# Altium schematic symbol library Symbol.SchLib: 68 symbols (part 1 of 2)
Pins are listed as number, name and electrical type; pins without a type are passive.

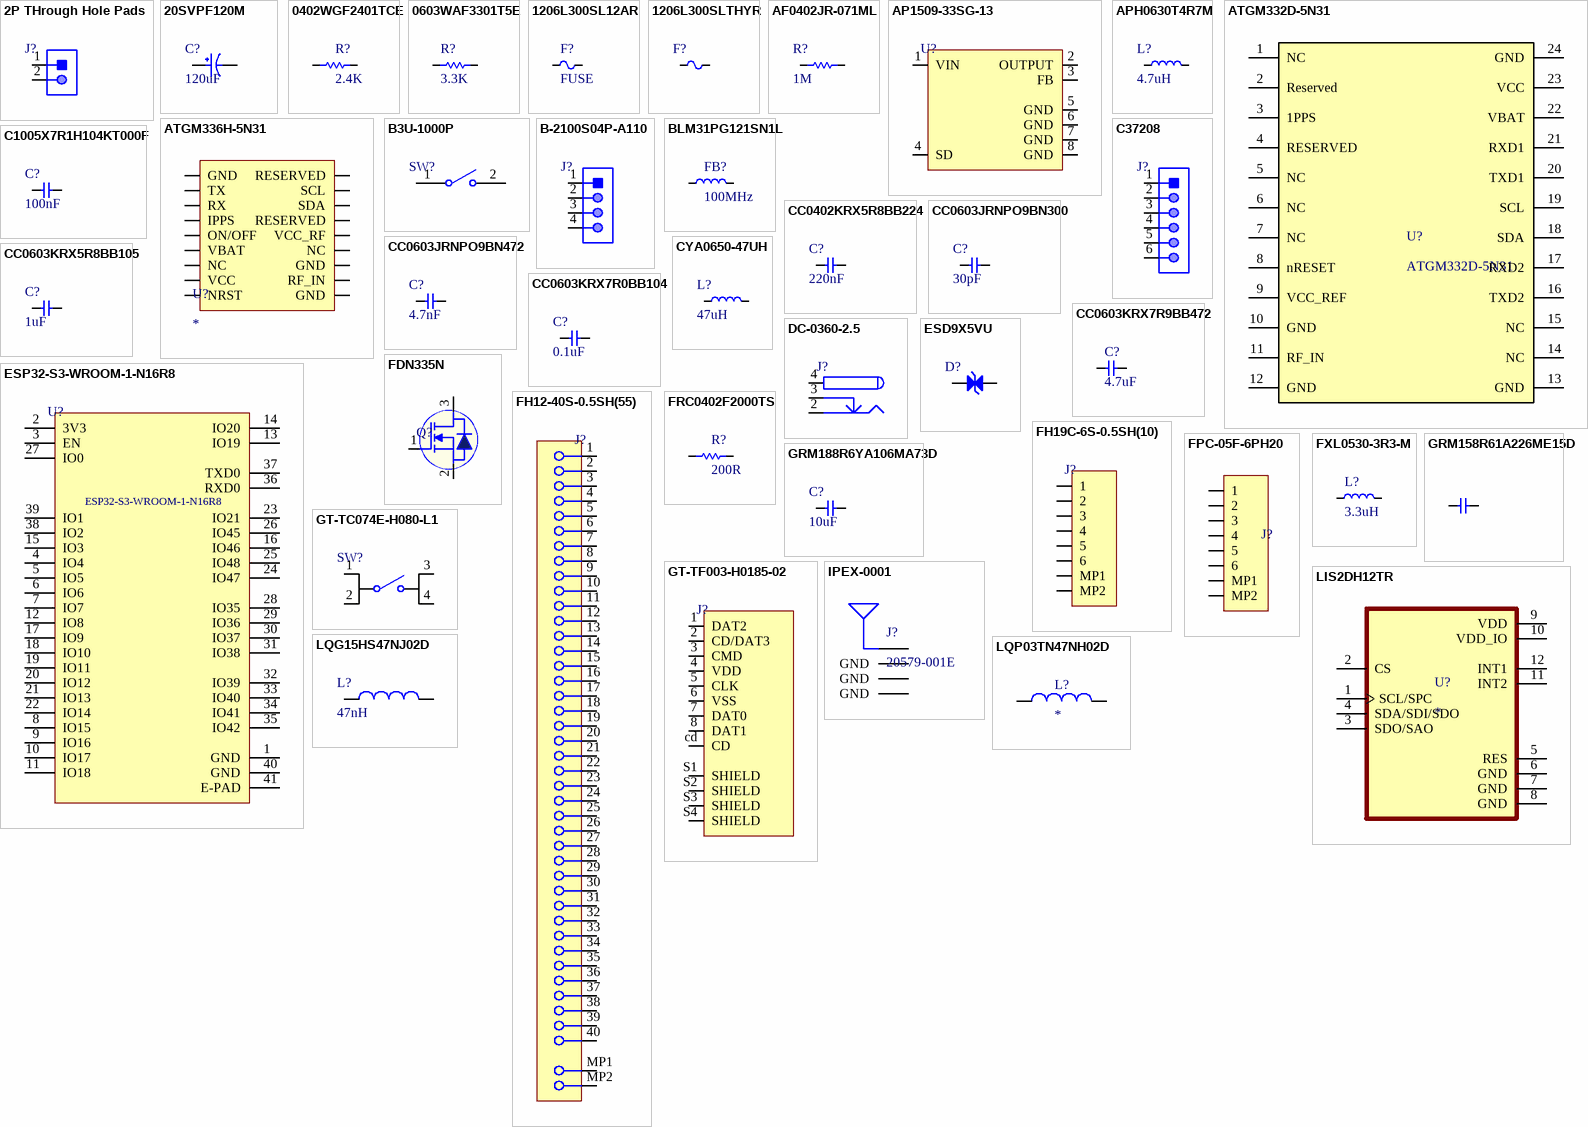
[diagram p0: symbols 2P THrough Hole Pads to LQP03TN47NH02D]

## 2P THrough Hole Pads
designator J?
Wire Connecting Pad; Manufacturer Part Number: 2P THrough Hole Pads; Item Type: THrough Hole Pads
footprint 2P THrough Hole Pads
pins: 1, 2

## 20SVPF120M
designator C?, comment 120uF
CAP ALUM POLY 120UF 20% 20V SMD; Manufacturer: Panasonic; Manufacturer Part Number: 20SVPF120M; Material: Polymer; ESR (Equivalent Series Resistance): 25mR; Ripple Current: 3.2A; Leakage Current: 480uA; Polarity: Polar; Life (Hours): 5000Hour; Dissipation Factor: 12%; Item Type: Capacitor; Supplier 1: Digi-Key; RoHS: Yes; Category: Aluminum Electrolytic Capacitors; Stock 1: 50150; Pricing 1: 1=1.45000, 10=1.14300, 50=0.99020, 100=0.85700, 500=0.64748 (USD); Mount: Surface Mount; Case/Package: Radial; Number of Pins: 6; Min Operating Temperature: -55°C; Max Operating Temperature: 105°C; Capacitance: 120uF; Tolerance: 20%; Voltage Rating: 20V; Packaging: Tape and Reel; Voltage Rating (DC): 20V; Package Quantity: 1000; Ripple Current (AC): 3.2A; Termination: SMD/SMT; Voltage: 20V; Series: OS-CON™, SVPF; Construction: Cylindrical; Diameter: 6.3mm; Length: 5.9mm; Height: 5.9mm; Height - Seated (Max): 0.236inch; Radiation Hardening: No; Reach SVHC Compliant: Yes; Lead Free: Lead Free; RoHS Compliant: Yes; ComponentLink1URL: https://datasheet.ciiva.com/24432/svpf-series-datasheet-24432811.pdf?src-supplier=Onlinecomponents.com; ComponentLink1Description: https://datasheet.ciiva.com/24432/svpf-series-datasheet-24432811.pdf?src-supplier=Onlinecomponents.com; ComponentLink2URL: https://datasheet.ciiva.com/25746/1734360-25746680.pdf?src-supplier=Farnell; ComponentLink2Description: https://datasheet.ciiva.com/25746/1734360-25746680.pdf?src-supplier=Farnell; ComponentLink3URL: https://datasheet.ciiva.com/22746/1734360-22746206.pdf?src-supplier=Element14; ComponentLink3Description: https://datasheet.ciiva.com/22746/1734360-22746206.pdf?src-supplier=Element14; ComponentLink4URL: https://datasheet.ciiva.com/46650/70324301-46650876.pdf?src-supplier=Allied+Electronics; ComponentLink4Description: https://datasheet.ciiva.com/46650/70324301-46650876.pdf?src-supplier=Allied+Electronics; Supplier Part Number 1: P16498CT-ND; LCSC Part Number: C186713
footprint 20SVPF120M
pins: 1, 2

## 0402WGF2401TCE
designator R?, comment 2.4K
62.5mW Thick Film Resistors 50V ±100ppm/℃ ±1% 2.4kΩ 0402 Chip Resistor - Surface Mount ROHS; Manufacturer: UNI ROYAL; Manufacturer Part Number: 0402WGF2401TCE; LCSC Part Number: C25882; Item Type: Resistor; Package: 0402; ComponentLink1Description: LCSC Link; ComponentLink1URL: https://www.lcsc.com/product-detail/Chip-Resistor-Surface-Mount_UNI-ROYAL-Uniroyal-Elec-0402WGF2401TCE_C25882.html
footprint Res-0402
pins: 1, 2

## 0603WAF3301T5E
designator R?, comment 3.3K
100mW Thick Film Resistors 75V ±100ppm/℃ ±1% 3.3kΩ 0603 Chip Resistor - Surface Mount ROHS; Manufacturer: UNI-ROYAL(Uniroyal Elec); Manufacturer Part Number: 0603WAF3301T5E; LCSC Part Number: C22978; Item Type: Resistor; Package: 0603; ComponentLink1Description: LSCS Link; ComponentLink1URL: https://www.lcsc.com/product-detail/Chip-Resistor-Surface-Mount_UNI-ROYAL-Uniroyal-Elec-0603WAF3301T5E_C22978.html
footprint Res-0603
pins: 1, 2

## 1206L300SL12AR
designator F?, comment FUSE
12V 3A 50A 6A 1206 Resettable Fuses ROHS; Manufacturer: LUTE; Manufacturer Part Number: Manufacturer; ComponentLink1Description: LCSC Link; ComponentLink1URL: https://www.lcsc.com/product-detail/Resettable-Fuses_LUTE-1206L300SL12AR_C18198361.html; LCSC Part Number: C18198361; Item Type: FUSE; Package: 1206
footprint Fuse 1206 (3216 Metric) (0.126" L x 0.062" W x 0.026" H (3.20mm x 1.58mm x 0.65mm))
pins: 1, 2

## 1206L300SLTHYR
designator F?
PTC RESET FUSE 6V 3A 1206; Manufacturer: Littelfuse; Manufacturer Part Number: 1206L300SLTHYR; Max Current Rating: 50A; Resistance: 20mR; Power Dissipation: 800mW; Trip Current: 6A; Time to Trip: 4s; Approvals: UL,TUV; Supplier 1: Arrow Electronics; RoHS: Yes; Category: PTC Resettable Fuses; Stock 1: 4000; Pricing 1: 4000=0.60290 (USD); Case/Package: 1206; Case Code (Metric): 3216; Case Code (Imperial): 1206; Min Operating Temperature: -40°C; Max Operating Temperature: 85°C; Package Quantity: 4000; Packaging: Tape and Reel; Termination: SMD/SMT; Max Voltage Rating (DC): 6V; Hold Current: 3A; Voltage Rating (DC): 6V; Operating Supply Voltage: 6V; Series: POLY-FUSE®, LoRho™; Lead Free: Lead Free; RoHS Compliant: Yes; ComponentLink1URL: https://datasheet.ciiva.com/7438/littelfuse-lorho-ptc-7438567.pdf?src-supplier=Digi-Key; ComponentLink1Description: https://datasheet.ciiva.com/7438/littelfuse-lorho-ptc-7438567.pdf?src-supplier=Digi-Key; ComponentLink2URL: https://datasheet.ciiva.com/7438/littelfuse-lorho-ptc-7438569.pdf?src-supplier=Digi-Key; ComponentLink2Description: https://datasheet.ciiva.com/7438/littelfuse-lorho-ptc-7438569.pdf?src-supplier=Digi-Key; ComponentLink3URL: https://datasheet.ciiva.com/7438/littelfuse-lorho-ptc-7438565.pdf?src-supplier=Digi-Key; ComponentLink3Description: https://datasheet.ciiva.com/7438/littelfuse-lorho-ptc-7438565.pdf?src-supplier=Digi-Key; Supplier Part Number 1: 1206L300SLTHYR; LCSC Part Number: C207041; Item Type: Fuse
footprint Fuse 1206 (3216 Metric) (0.126" L x 0.062" W x 0.026" H (3.20mm x 1.58mm x 0.65mm))
pins: 1, 2

## AF0402JR-071ML
designator R?, comment 1M
RES SMD 1M OHM 5% 1/16W 0402; Manufacturer: Yageo; Manufacturer Part Number: AF0402JR-071ML; Resistance: 1MR; Max Power Dissipation: 63mW; Temperature Coefficient: 100ppm/°C; Item Type: Resistor; Supplier 1: Digi-Key; Stock 1: 0; Pricing 1: 10000=0.00408 (USD); Case/Package: 0402; Min Operating Temperature: -55°C; Max Operating Temperature: 155°C; Packaging: Tape and Reel; Resistor Type: Thick Film; Number of Terminations: 2; Tolerance: 5%; Features: Moisture Resistant,Anti-Sulfur; Length: 0.039inch; Width: 0.02inch; Height: 0.015inch; RoHS Compliant: Yes; ComponentLink1URL: https://www.yageo.com/upload/media/product/productsearch/datasheet/rchip/PYu-AF_51_RoHS_L_6.pdf?src-supplier=Digi-Key; ComponentLink1Description: https://www.yageo.com/upload/media/product/productsearch/datasheet/rchip/PYu-AF_51_RoHS_L_6.pdf?src-supplier=Digi-Key; Supplier Part Number 1: AF0402JR-071ML-ND; LCSC Part Number: C144054
footprint Res-0402
pins: 1, 2

## AP1509-33SG-13
designator U?
IC REG BUCK 3.3V 2A 8SOP; Manufacturer: Diodes; Manufacturer Part Number: AP1509-33SG-13; Supplier: Digi-Key; Supplier Part Number: AP1509-33SGDICT-ND; RoHS: Yes; Category: Voltage Regulators - Switching; Stock: 7160; Pricing: 1=1.6, 10=1.43, 25=1.3576, 100=1.115, 250=1.04232, 500=0.92112, 1000=0.7272 (USD); ComponentLink1URL: https://datasheet.ciiva.com/2024/ap1509-2024112.pdf?src-supplier=Digi-Key; ComponentLink1Description: https://datasheet.ciiva.com/2024/ap1509-2024112.pdf?src-supplier=Digi-Key; ComponentLink2URL: https://datasheet.ciiva.com/22696/608784-22696879.pdf?src-supplier=Element14; ComponentLink2Description: https://datasheet.ciiva.com/22696/608784-22696879.pdf?src-supplier=Element14; ComponentLink3URL: https://datasheet.ciiva.com/3220/ap1509-3220415.pdf?src-supplier=Avnet; ComponentLink3Description: https://datasheet.ciiva.com/3220/ap1509-3220415.pdf?src-supplier=Avnet; ComponentLink4URL: https://datasheet.ciiva.com/3222/ap1509-3222047.pdf?src-supplier=Avnet; ComponentLink4Description: https://datasheet.ciiva.com/3222/ap1509-3222047.pdf?src-supplier=Avnet; ComponentLink5URL: https://datasheet.ciiva.com/1161/608784-1161659.pdf?src-supplier=Element14; ComponentLink5Description: https://datasheet.ciiva.com/1161/608784-1161659.pdf?src-supplier=Element14; LCSC Part Number: C151823; Item Type: IC
footprint SOP-8L
pins: 1 VIN, 2 OUTPUT, 3 FB, 4 SD, 5 GND, 6 GND, 7 GND, 8 GND

## APH0630T4R7M
designator L?, comment 4.7uH
5.15A 4.7uH Molding Choke ±20% 7.47A SMD,7x6.6mm Power Inductors ROHS; Manufacturer: APV; Manufacturer Part Number: APH0630T4R7M; LCSC Part Number: C5349705; Item Type: Inductor; Package: SMD,7x6.6mm; ComponentLink1Description: LCSC; ComponentLink1URL: https://www.lcsc.com/product-detail/Power-Inductors_APV-APH0630T4R7M_C5349705.html
footprint APH0630T4R7M
pins: 1, 2

## ATGM332D-5N31
designator U?
Satellite Positioning Modules ROHS, SMD,12.2x16mm; ComponentLink1Description: LCSC; ComponentLink1URL: https://www.lcsc.com/product-detail/Satellite-Positioning-Modules_ZHONGKEWEI-ATGM332D-5N31_C128659.html
footprint ATGM332D-5N31
pins: 1 NC, 2 Reserved, 3 1PPS, 4 RESERVED, 5 NC, 6 NC, 7 NC, 8 nRESET, 9 VCC_REF, 10 GND, 11 RF_IN, 12 GND, 13 GND, 14 NC, 15 NC, 16 TXD2, 17 RXD2, 18 SDA, 19 SCL, 20 TXD1, 21 RXD1, 22 VBAT, 23 VCC, 24 GND

## ATGM336H-5N31
designator U?
SMD,9.7x10.1mm Satellite Positioning Modules ROHS
footprint ATGM336H
pins: 1 GND, 2 TX, 3 RX, 4 IPPS, 5 ON/OFF, 6 VBAT, 7 NC, 8 VCC, 9 NRST, 10 GND, 11 RF_IN, 12 GND, 13 NC, 14 VCC_RF, 15 RESERVED, 16 SDA, 17 SCL, 18 RESERVED

## B3U-1000P
designator SW?
SWITCH TACTILE SPST-NO 0.05A 12V; Manufacturer: Omron; Manufacturer Part Number: B3U-1000P; Mechanical Life: 200000Cycles; Operating Force: 1.5N; Throw Configuration: SPST; Current Rating: 50mA; Contact Resistance: 100mR; Illumination Type: Non-Illuminated,Illuminated; Switch Travel: 0.15mm; Switch Function: Off-Mom; Actuator Type: Standard; Actuator Length: 0.4mm; Ratings: Dust Proof,IP40; ComponentLink1URL: http://www.farnell.com/datasheets/60838.pdf?src-supplier=Farnell; ComponentLink1Description: http://www.farnell.com/datasheets/60838.pdf?src-supplier=Farnell; ComponentLink2URL: http://www.farnell.com/datasheets/60838.pdf?src-supplier=Element14; ComponentLink2Description: http://www.farnell.com/datasheets/60838.pdf?src-supplier=Element14; ComponentLink3URL: https://omronfs.omron.com/en_US/ecb/products/pdf/en-b3u.pdf?src-supplier=Digi-Key; ComponentLink3Description: https://omronfs.omron.com/en_US/ecb/products/pdf/en-b3u.pdf?src-supplier=Digi-Key; ComponentLink4URL: http://www.omron.com/ecb/products/pdf/en-b3u.pdf?src-supplier=Digi-Key; ComponentLink4Description: http://www.omron.com/ecb/products/pdf/en-b3u.pdf?src-supplier=Digi-Key; ComponentLink5URL: https://www.distrelec.biz/Web/Downloads/he/et/B3U_eng_datasheet.pdf?mime=application%2Fpdf&src-supplier=Distrelec; ComponentLink5Description: https://www.distrelec.biz/Web/Downloads/he/et/B3U_eng_datasheet.pdf?mime=application%2Fpdf&src-supplier=Distrelec; ComponentLink6URL: http://www.onlinecomponents.com/productFiles/mf-OM/en-b3u.pdf?src-supplier=Onlinecomponents.com; ComponentLink6Description: http://www.onlinecomponents.com/productFiles/mf-OM/en-b3u.pdf?src-supplier=Onlinecomponents.com; Supplier 1: Digi-Key; Stock 1: 116454; Pricing 1: 1=1, 10=0.961, 25=0.9064, 50=0.7976, 100=0.7251, 250=0.68888, 500=0.67074, 1000=0.52571 (USD); Mount: Surface Mount; Weight: 0.000776oz; Contact Material: Silver; Min Operating Temperature: -25°C; Max Operating Temperature: 70°C; Packaging: Tape and Reel; Voltage Rating (DC): 12V; Package Quantity: 1; Max Current Rating: 50mA; Termination: SMD/SMT; Orientation: Straight; Max Voltage Rating (DC): 12V; Electrical Life: 200000Cycles; Insulation Resistance: 100MR; Contact Current Rating: 50mA; Length: 4mm; Height: 1.2mm; Depth: 2.5mm; Width: 3mm; REACH SVHC: Unknown; Lead Free: Lead Free; ComponentLink7URL: https://www.verical.com/server-webapp/html/getDatasheet?partID=552554&src-supplier=Verical; ComponentLink7Description: https://www.verical.com/server-webapp/html/getDatasheet?partID=552554&src-supplier=Verical; ComponentLink8URL: http://www.farnell.com/datasheets/1685550.pdf?src-supplier=Element14; ComponentLink8Description: http://www.farnell.com/datasheets/1685550.pdf?src-supplier=Element14; ComponentLink9URL: http://www.farnell.com/datasheets/2610940.pdf?src-supplier=Farnell; ComponentLink9Description: http://www.farnell.com/datasheets/2610940.pdf?src-supplier=Farnell; ComponentLink10URL: https://www.alliedelec.com/m/d/4c8a9ef82804fc3c241a13c1e298fd73.pdf?src-supplier=Allied+Electronics; ComponentLink10Description: https://www.alliedelec.com/m/d/4c8a9ef82804fc3c241a13c1e298fd73.pdf?src-supplier=Allied+Electronics; Supplier Part Number 1: SW1020DKR-ND; LCSC Part Number: C231329; Item Type: Switch
footprint B3U-1000P (SWITCH TACTILE SPST-NO 0.05A 12V)
pins: 1, 2

## B-2100S04P-A110
designator J?
Straight 2.54mm Black Brass 1x4P Plugin,P=2.54mm Pin Headers ROHS; Manufacturer: Ckmtw; Manufacturer Part Number: B-2100S04P-A110; Item Type: Header; LCSC Part Number: C124378; ComponentLink1Description: LCSC; ComponentLink1URL: https://www.lcsc.com/product-detail/Pin-Headers_Ckmtw-Shenzhen-Cankemeng-B-2100S04P-A110_C124378.html
footprint HDR1X4
pins: 1, 2, 3, 4

## BLM31PG121SN1L
designator FB?, comment 100MHz
FERRITE BEAD 120 OHM 1206 1LN; Manufacturer: Murata; Manufacturer Part Number: BLM31PG121SN1L; Material: Steel,Ferrite; Tolerance: 25%; Impedance: 120R; Max Current Rating: 3.5A; Number of Lines: 1; DC Resistance (DCR): 20mR; Max DC Current: 3A; Shielding: Unshielded; Supplier 1: Avnet; RoHS: Yes; Category: Ferrite Beads and Chips; Stock 1: 290640; Pricing 1: 3000=0.11563, 6000=0.10938, 12000=0.10313, 18000=0.09688, 24000=0.09063, 30000=0.08438, 300000=0.07813 (USD); Case/Package: 1206; Number of Pins: 2; Core Material: Ferrite; Case Code (Metric): 3216; Case Code (Imperial): 1206; Contact Plating: Tin,Matte; Min Operating Temperature: -55°C; Max Operating Temperature: 125°C; Package Quantity: 3000; Packaging: Tape and Reel; Current Rating: 3.5A; Termination: SMD/SMT; Test Frequency: 100MHz; DC Current: 3A; Frequency: 100MHz; Length: 3.2mm; Width: 1.6mm; Height: 1.1mm; Depth: 1.6mm; Radiation Hardening: No; Military Standard: Not; Lead Free: Lead Free; RoHS Compliant: Yes; ComponentLink1URL: https://datasheet.ciiva.com/19460/1845419-19460234.pdf?src-supplier=Jameco; ComponentLink1Description: https://datasheet.ciiva.com/19460/1845419-19460234.pdf?src-supplier=Jameco; ComponentLink2URL: https://datasheet.ciiva.com/1012/l0132s0193blm31p-1012992.pdf?src-supplier=Digi-Key; ComponentLink2Description: https://datasheet.ciiva.com/1012/l0132s0193blm31p-1012992.pdf?src-supplier=Digi-Key; ComponentLink3URL: https://datasheet.ciiva.com/11799/0900766b811b5866-11799444.pdf?src-supplier=RSComponents; ComponentLink3Description: https://datasheet.ciiva.com/11799/0900766b811b5866-11799444.pdf?src-supplier=RSComponents; ComponentLink4URL: https://datasheet.ciiva.com/3081/l0110s0100blm31p-3081665.pdf?src-supplier=Avnet; ComponentLink4Description: https://datasheet.ciiva.com/3081/l0110s0100blm31p-3081665.pdf?src-supplier=Avnet; ComponentLink5URL: https://datasheet.ciiva.com/41449/001172383-da-01-en-drossel-1206-120r-3-2x1-60mm-3000st-41449554.pdf?src-supplier=Conrad; ComponentLink5Description: https://datasheet.ciiva.com/41449/001172383-da-01-en-drossel-1206-120r-3-2x1-60mm-3000st-41449554.pdf?src-supplier=Conrad; ComponentLink6URL: https://datasheet.ciiva.com/29348/442557-da-01-en-chip-drossel-1206-120r-3000ma-3-2x1-60mm-29348014.pdf?src-supplier=Conrad; ComponentLink6Description: https://datasheet.ciiva.com/29348/442557-da-01-en-chip-drossel-1206-120r-3000ma-3-2x1-60mm-29348014.pdf?src-supplier=Conrad; ComponentLink7URL: https://datasheet.ciiva.com/14122/apblm31p-data-e-14122856.pdf?src-supplier=Distrelec; ComponentLink7Description: https://datasheet.ciiva.com/14122/apblm31p-data-e-14122856.pdf?src-supplier=Distrelec; ComponentLink8URL: https://datasheet.ciiva.com/48436/blm31pg121sn1l-eng-tds-48436731.pdf?src-supplier=Distrelec; ComponentLink8Description: https://datasheet.ciiva.com/48436/blm31pg121sn1l-eng-tds-48436731.pdf?src-supplier=Distrelec; ComponentLink9URL: https://datasheet.ciiva.com/1012/l0110s0100blm31p-1012991.pdf?src-supplier=Digi-Key; ComponentLink9Description: https://datasheet.ciiva.com/1012/l0110s0100blm31p-1012991.pdf?src-supplier=Digi-Key; ComponentLink10URL: https://datasheet.ciiva.com/1012/l0110s0100blm31p-1012993.pdf?src-supplier=Digi-Key; ComponentLink10Description: https://datasheet.ciiva.com/1012/l0110s0100blm31p-1012993.pdf?src-supplier=Digi-Key; ComponentLink11URL: https://datasheet.ciiva.com/3081/l0110s0100blm31p-3081666.pdf?src-supplier=Avnet; ComponentLink11Description: https://datasheet.ciiva.com/3081/l0110s0100blm31p-3081666.pdf?src-supplier=Avnet; ComponentLink12URL: https://datasheet.ciiva.com/16390/l0110s0100blm31p-16390857.pdf?src-supplier=Future+Electronics; ComponentLink12Description: https://datasheet.ciiva.com/16390/l0110s0100blm31p-16390857.pdf?src-supplier=Future+Electronics; ComponentLink13URL: https://datasheet.ciiva.com/18093/getdatasheetpartid-152966-18093084.pdf?src-supplier=Verical; ComponentLink13Description: https://datasheet.ciiva.com/18093/getdatasheetpartid-152966-18093084.pdf?src-supplier=Verical; Supplier Part Number 1: BLM31PG121SN1L; LCSC Part Number: C85841; Item Type: Ferrite Bead
footprint IND-1206
pins: 1, 2

## C1005X7R1H104KT000F
designator C?, comment 100nF
CAP CER 0.1UF 50V X7R 0402; Manufacturer: TDK; Manufacturer Part Number: C1005X7R1H104KT000F; Tolerance: 10%; Voltage: 25V; Item Type: Capacitor; Supplier 1: Avnet; RoHS: No; Category: Ceramic Capacitors; Dielectric: X7R; Supplier Part Number 1: C1005X7R1H104KT000F; LCSC Part Number: C361198; ComponentLink1Description: LCSC; ComponentLink1URL: https://www.lcsc.com/product-detail/Multilayer-Ceramic-Capacitors-MLCC-SMD-SMT_TDK-C1005X7R1H104KT000F_C361198.html
footprint Cap-0402
pins: 1, 2

## C37208
designator J?
Straight 1 6 2.54mm Black Brass Plugin,P=2.54mm Pin Headers ROHS; Manufacturer: BOOMELEC; Manufacturer Part Number: C37208; Item Type: Header; Package: Custom; ComponentLink1Description: New link; ComponentLink1URL: https://www.lcsc.com/product-detail/Pin-Headers_BOOMELE-Boom-Precision-Elec-C37208_C37208.html; LCSC Part Number: C37208
footprint HDR1X6_ (Connector; Header; 6 Position)
pins: 1, 2, 3, 4, 5, 6

## CC0402KRX5R8BB224
designator C?, comment 220nF
CAP CER 0.22UF 25V X5R 0402; Manufacturer: Yageo; Manufacturer Part Number: CC0402KRX5R8BB224; Tolerance: 10%; Supplier 1: Mouser; RoHS: Yes; Category: Ceramic Capacitors; Stock 1: 61266; Pricing 1: 1=0.10000, 10=0.03300, 50=0.03300, 100=0.02700, 1000=0.01500, 10000=0.01300 (USD); Mount: Surface Mount; Case/Package: 0402; Min Operating Temperature: -55°C; Max Operating Temperature: 85°C; Packaging: Tape and Reel; Capacitance: 220nF; Voltage Rating: 25V; Voltage Rating (DC): 25V; Dielectric: X5R; Length: 0.039inch; Width: 0.02inch; Thickness: 0.022inch; Lead Free: Lead Free; Halogen Free: Halogen Free; RoHS Compliant: Yes; ComponentLink1URL: http://www.yageo.com/documents/recent/UPY-GPHC_X5R_4V-to-50V_25.pdf?src-supplier=Digi-Key; ComponentLink1Description: http://www.yageo.com/documents/recent/UPY-GPHC_X5R_4V-to-50V_25.pdf?src-supplier=Digi-Key; ComponentLink2URL: https://www.yageo.com/upload/media/product/productsearch/datasheet/mlcc/UPY-GPHC_X5R_4V-to-50V_26.pdf?src-supplier=Digi-Key; ComponentLink2Description: https://www.yageo.com/upload/media/product/productsearch/datasheet/mlcc/UPY-GPHC_X5R_4V-to-50V_26.pdf?src-supplier=Digi-Key; ComponentLink3URL: http://www.yageo.com/documents/recent/UPY-GPHC_X5R_4V-to-50V_23.pdf?src-supplier=Digi-Key; ComponentLink3Description: http://www.yageo.com/documents/recent/UPY-GPHC_X5R_4V-to-50V_23.pdf?src-supplier=Digi-Key; Supplier Part Number 1: 603-CC402KRX5R8BB224; LCSC Part Number: C326836
footprint Cap-0402
pins: 1, 2

## CC0603JRNPO9BN300
designator C?, comment 30pF
CAP 30pF NP0 0603 50 V ±5 % SMD; Manufacturer: Yageo; Manufacturer Part Number: CC0603JRNPO9BN300; Tolerance: 5%; Dielectric: C0G; Voltage Rating: 50V; Dissipation Factor: 0.1%; Insulation Resistance: 10GR; Supplier 1: Digi-Key; RoHS: Yes; Category: Ceramic Capacitors; Stock 1: 36700; Pricing 1: 1=0.10000, 10=0.06800, 50=0.03700, 100=0.03020, 500=0.02160, 1000=0.01697 (USD); Mount: Surface Mount; Case/Package: 0603; Number of Pins: 2; Case Code (Imperial): 0603; Case Code (Metric): 1608; Weight: 7.1E-05oz; Min Operating Temperature: -55°C; Max Operating Temperature: 125°C; Capacitance: 30pF; Packaging: Tape and Reel; Voltage Rating (DC): 50V; Termination: SMD/SMT; Resistor Type: Ceramic; Series: CC; Construction: Flat; Length: 1.6mm; Width: 0.031inch; Height: 0.8mm; Thickness: 0.035inch; Depth: 0.8mm; Radiation Hardening: No; REACH SVHC: No SVHC; Lead Free: Lead Free; RoHS Compliant: Yes; ComponentLink1URL: https://datasheet.ciiva.com/26862/getdatasheetpartid-403531-26862766.pdf?src-supplier=Verical; ComponentLink1Description: https://datasheet.ciiva.com/26862/getdatasheetpartid-403531-26862766.pdf?src-supplier=Verical; ComponentLink2URL: https://datasheet.ciiva.com/13264/upy-gp-np0-16v-to-50v-8-3714-13264406.pdf?src-supplier=Mouser; ComponentLink2Description: https://datasheet.ciiva.com/13264/upy-gp-np0-16v-to-50v-8-3714-13264406.pdf?src-supplier=Mouser; ComponentLink3URL: https://datasheet.ciiva.com/7978/1132289-7978140.pdf?src-supplier=Element14; ComponentLink3Description: https://datasheet.ciiva.com/7978/1132289-7978140.pdf?src-supplier=Element14; ComponentLink4URL: https://datasheet.ciiva.com/28450/1443161-28450494.pdf?src-supplier=Element14; ComponentLink4Description: https://datasheet.ciiva.com/28450/1443161-28450494.pdf?src-supplier=Element14; Supplier Part Number 1: 311-3357-1-ND; LCSC Part Number: C113797
footprint Cap-0603
pins: 1, 2

## CC0603JRNPO9BN472
designator C?, comment 4.7nF
CAP CER 4700PF 50V C0G/NPO 0603; Manufacturer: Yageo; Manufacturer Part Number: CC0603JRNPO9BN472; Item Type: Capacitor; Supplier 1: Digi-Key; RoHS: Yes; Category: Ceramic Capacitors; Stock 1: 31779; Pricing 1: 1=0.48000, 10=0.33000, 50=0.23100, 100=0.19800, 500=0.14854, 1000=0.12543 (USD); RoHS Compliant: Yes; Supplier Part Number 1: 13-CC0603JRNPO9BN472CT-ND; LCSC Part Number: C576818; ComponentLink1Description: LCSC; ComponentLink1URL: https://www.lcsc.com/product-detail/Multilayer-Ceramic-Capacitors-MLCC-SMD-SMT_YAGEO-CC0603JRNPO9BN472_C576818.html
footprint Cap-0603
pins: 1, 2

## CC0603KRX5R8BB105
designator C?, comment 1uF
CAP CER 1UF 25V X5R 0603; Manufacturer: Yageo; Manufacturer Part Number: CC0603KRX5R8BB105; Tolerance: 10%; Item Type: Capacitor; Supplier 1: Digi-Key; RoHS: Yes; Category: Ceramic Capacitors; Stock 1: 919939; Pricing 1: 1=0.12000, 10=0.08400, 50=0.04760, 100=0.03940, 500=0.02764, 1000=0.02288 (USD); Mount: Surface Mount; Case/Package: 0603; Number of Pins: 2; Case Code (Metric): 1608; Case Code (Imperial): 0603; Min Operating Temperature: -55°C; Max Operating Temperature: 85°C; Capacitance: 1uF; Dielectric: X5R; Package Quantity: 1; Voltage Rating: 25V; Packaging: Tape and Reel; Termination: SMD/SMT; Voltage Rating (DC): 25V; Series: CC; Construction: Flat; Length: 1.6mm; Width: 0.031inch; Height: 0.8mm; Thickness: 0.035inch; Depth: 0.8mm; Radiation Hardening: No; REACH SVHC: No SVHC; Lead Free: Lead Free; Halogen Free: Halogen Free; RoHS Compliant: Yes; ComponentLink1URL: https://datasheet.ciiva.com/176/mlccorderingcode-176785.pdf?src-supplier=Digi-Key; ComponentLink1Description: https://datasheet.ciiva.com/176/mlccorderingcode-176785.pdf?src-supplier=Digi-Key; ComponentLink2URL: https://datasheet.ciiva.com/176/mlccorderingcode-176786.pdf?src-supplier=Digi-Key; ComponentLink2Description: https://datasheet.ciiva.com/176/mlccorderingcode-176786.pdf?src-supplier=Digi-Key; ComponentLink3URL: https://datasheet.ciiva.com/176/mlccorderingcode-176787.pdf?src-supplier=Digi-Key; ComponentLink3Description: https://datasheet.ciiva.com/176/mlccorderingcode-176787.pdf?src-supplier=Digi-Key; ComponentLink4URL: https://datasheet.ciiva.com/17436/upy-gphc-x5r-4v-to-50v-12-17436952.pdf?src-supplier=Avnet+Europe; ComponentLink4Description: https://datasheet.ciiva.com/17436/upy-gphc-x5r-4v-to-50v-12-17436952.pdf?src-supplier=Avnet+Europe; ComponentLink5URL: https://datasheet.ciiva.com/7978/1525783-7978171.pdf?src-supplier=Element14; ComponentLink5Description: https://datasheet.ciiva.com/7978/1525783-7978171.pdf?src-supplier=Element14; ComponentLink6URL: https://datasheet.ciiva.com/11586/upy-gphc-x5r-4v-to-50v-12-11586318.pdf?src-supplier=Avnet; ComponentLink6Description: https://datasheet.ciiva.com/11586/upy-gphc-x5r-4v-to-50v-12-11586318.pdf?src-supplier=Avnet; Supplier Part Number 1: 311-1445-1-ND; LCSC Part Number: C14664
footprint Cap-0603
pins: 1, 2

## CC0603KRX7R0BB104
designator C?, comment 0.1uF
CAP CER 0.1UF 100V X7R 0603; Manufacturer: Yageo; Manufacturer Part Number: CC0603KRX7R0BB104; Capacitance: 100nF; Tolerance: 10%; Item Type: Capacitor; Supplier 1: Digi-Key; RoHS: Yes; Category: Ceramic Capacitors; Stock 1: 60476; Pricing 1: 1=0.19000, 10=0.13500, 50=0.07680, 100=0.06370, 500=0.04466, 1000=0.03696 (USD); Mount: Surface Mount; Case/Package: 0603; Case Code (Metric): 1608; Case Code (Imperial): 0603; Weight: 7.1E-05oz; Min Operating Temperature: -55°C; Max Operating Temperature: 125°C; Package Quantity: 4000; Voltage Rating: 100V; Packaging: Tape and Reel; Dielectric: X7R; Termination: SMD/SMT; Resistor Type: Ceramic; Voltage Rating (DC): 100V; Series: CC; Length: 0.063inch; Width: 0.031inch; Thickness: 0.035inch; Depth: 0.8mm; Lead Free: Lead Free; RoHS Compliant: Yes; ComponentLink1URL: https://datasheet.ciiva.com/6277/mlccorderingcode-6277030.pdf?src-supplier=Digi-Key; ComponentLink1Description: https://datasheet.ciiva.com/6277/mlccorderingcode-6277030.pdf?src-supplier=Digi-Key; ComponentLink2URL: https://datasheet.ciiva.com/6277/mlccorderingcode-6277081.pdf?src-supplier=Digi-Key; ComponentLink2Description: https://datasheet.ciiva.com/6277/mlccorderingcode-6277081.pdf?src-supplier=Digi-Key; ComponentLink3URL: https://datasheet.ciiva.com/6277/mlccorderingcode-6277082.pdf?src-supplier=Digi-Key; ComponentLink3Description: https://datasheet.ciiva.com/6277/mlccorderingcode-6277082.pdf?src-supplier=Digi-Key; Supplier Part Number 1: 311-1523-1-ND; LCSC Part Number: C113803
footprint Cap-0603
pins: 1, 2

## CC0603KRX7R9BB472
designator C?, comment 4.7uF
50V 4.7nF X7R ±10% 0603 Multilayer Ceramic Capacitors MLCC - SMD/SMT ROHS; Manufacturer: YAGEO; Manufacturer Part Number: CC0603KRX7R9BB472; LCSC Part Number: C106218; Item Type: Capacitor; Package: 0603; ComponentLink1Description: LCSC Link; ComponentLink1URL: https://www.lcsc.com/product-detail/Multilayer-Ceramic-Capacitors-MLCC-SMD-SMT_YAGEO-CC0603KRX7R9BB472_C106218.html
footprint Cap-0603
pins: 1, 2

## CYA0650-47UH
designator L?, comment 47uH
2A 47uH ±20% 250mΩ SMD,6.6x7.2mm Inductors (SMD) ROHS; Manufacturer: SHOU HAN; Manufacturer Part Number: CYA0650-47UH; Package: SMD,6.6x7.2mm; LCSC Part Number: C5189938; Item Type: Inductor; ComponentLink1Description: LCSC; ComponentLink1URL: https://www.lcsc.com/product-detail/Inductors-SMD_SHOU-HAN-CYA0650-47UH_C5189938.html
footprint CYA0650-47UH
pins: 1, 2

## DC-0360-2.5
designator J?
DC Power Receptacle 260℃ Brass -20℃~+70℃ 2.5mm 6mm 2.5A 24V Plugin AC/DC Power Connectors ROHS; Manufacturer: XKB Connectivity; Manufacturer Part Number: DC-0360-2.5; Item Type: DC Jack; Package: Plugin; LCSC Part Number: C319122; ComponentLink1Description: LCSC; ComponentLink1URL: https://www.lcsc.com/product-detail/AC-DC-Power-Connectors_XKB-Connectivity-DC-0360-2-5_C319122.html
footprint DC-0360-2.5
pins: 2 (power), 3 (power), 4 (power)

## ESD9X5VU
designator D?
DFN1006-2 ESD Protection Devices ROHS; Manufacturer: TECH PUBLIC; Manufacturer Part Number: ESD9X5VU; Footprint: DFN1006-2; ComponentLink1Description: LCSC; ComponentLink1URL: https://www.lcsc.com/product-detail/span-style-background-color-ff0-ESD-span-Protection-Devices_TECH-PUBLIC-ESD9X5VU_C2875160.html; LCSC Part Number: C2875160
footprint DFN1006-2L_
pins: 1 A, 2 A

## ESP32-S3-WROOM-1-N16R8
designator U?
ESP32-S3 chip 2.4GHz SMD,18x25.5mm WiFi Modules ROHS; Manufacturer: Expressif System; Manufacturer Part Number: ESP32-S3-WROOM-1-N8; Item Type: IC; Package: SMD,18x25.5mm; LCSC Part Number: C2913198; ComponentLink1URL: https://www.lcsc.com/product-detail/WiFi-Modules_Espressif-Systems-ESP32-S3-WROOM-1-N8_C2913198.html; ComponentLink1Description: LCSC
footprint 41-SMD Module
pins: 1 GND, 2 3V3, 3 EN, 4 IO4, 5 IO5, 6 IO6, 7 IO7, 8 IO15, 9 IO16, 10 IO17, 11 IO18, 12 IO8, 13 IO19, 14 IO20, 15 IO3, 16 IO46, 17 IO9, 18 IO10, 19 IO11, 20 IO12, 21 IO13, 22 IO14, 23 IO21, 24 IO47, 25 IO48, 26 IO45, 27 IO0, 28 IO35, 29 IO36, 30 IO37, 31 IO38, 32 IO39, 33 IO40, 34 IO41, 35 IO42, 36 RXD0, 37 TXD0, 38 IO2, 39 IO1, 40 GND, 41 E-PAD

## FDN335N
designator Q?
SOT-23 MOSFETs ROHS; Manufacturer: TECH PUBLIC; Manufacturer Part Number: FDN335N; Item Type: Mosfet; Package: SOT-23; LCSC Part Number: C5123904; ComponentLink1Description: LCSC; ComponentLink1URL: https://www.lcsc.com/product-detail/MOSFETs_TECH-PUBLIC-FDN335N_C5123904.html
footprint SOT-23 (TRANS NPN 40V 0.6A SOT23)
pins: 1 G, 2 S, 3 D

## FH12-40S-0.5SH(55)
designator J?
CONN FFC BOTTOM 40POS 0.50MM R/A; Manufacturer: Hirose; Manufacturer Part Number: FH12-40S-0.5SH(55); Connector Type: CARD EDGE CONNECTOR; Option: General Purpose; Filter Feature: No; Number of Rows Loaded: 1; Number of Contacts: 40; Contact Pattern: RECTANGULAR; Contact Resistance: 50mR; Contact Style: BELLOWED TYPE; Dielectric Withstanding Voltage (AC): 150V; Durability: 20Cycles; Insulation Resistance: 500MR; Rated Current (Signal): 400mA; Body Breadth: 0.079inch; Body Depth: 0.22inch; Body Length: 0.949inch; Mating Contact Pitch: 0.02inch; Mounting Option 1: EJECT LEVER; Mounting Option 2: LOCKING; Reference Standard: UL; Reliability: COMMERCIAL; Item Type: Connector; Supplier 1: Digi-Key; RoHS: Yes; Category: FFC / FPC; Stock 1: 11247; Pricing 1: 1=3.00000, 10=2.72800, 25=2.58400, 50=2.52400, 100=2.40380, 250=2.10332, 500=2.04324, 1000=1.74276 (USD); Mounting Technology: Board; Contact Finish - Mating: NOT SPECIFIED; Contact Finish - Termination: Nickel/Gold (Ni/Au); Insulation Color: Beige; Insulation Material: Polyamide; Min Operating Temperature: -40°C; Max Operating Temperature: 70°C; JESD-609 Code: e4; Contact Gender: Female; Mixed Contacts: No; Mounting Style: RIGHT ANGLE; Termination: SMD/SMT; Number Of PCB Rows: 1; PCB Contact Pattern: RECTANGULAR; Terminal Pitch: 0.5mm; Flammability Rating: UL94 V-0; RoHS Compliant: Yes; DIN Conformance: No; IEC Conformance: No; MIL Conformance: No; Reach SVHC Compliant: Yes; ComponentLink1URL: https://datasheet.ciiva.com:443/pdfs/VipMasterIC/IC/HIRO/HIRO-S-A0003089604/HIRO-S-A0008599618-1.pdf?src-supplier=IHS+Markit; ComponentLink1Description: https://datasheet.ciiva.com:443/pdfs/VipMasterIC/IC/HIRO/HIRO-S-A0003089604/HIRO-S-A0008599618-1.pdf?src-supplier=IHS+Markit; ComponentLink2URL: https://datasheet.ciiva.com/11745/0900766b80d985fc-11745617.pdf?src-supplier=RSComponents; ComponentLink2Description: https://datasheet.ciiva.com/11745/0900766b80d985fc-11745617.pdf?src-supplier=RSComponents; ComponentLink3URL: https://datasheet.ciiva.com/15176/getdatasheetpartid-432539-15176843.pdf?src-supplier=Verical; ComponentLink3Description: https://datasheet.ciiva.com/15176/getdatasheetpartid-432539-15176843.pdf?src-supplier=Verical; ComponentLink4URL: https://datasheet.ciiva.com/7661/58803-7661389.pdf?src-supplier=Element14; ComponentLink4Description: https://datasheet.ciiva.com/7661/58803-7661389.pdf?src-supplier=Element14; Supplier Part Number 1: 26-FH12-40S-0.5SH(55)CT-ND; LCSC Part Number: C202114
footprint FH12-40S-0.5SH(55)
pins: 1, 2, 3, 4, 5, 6, 7, 8, 9, 10, 11, 12, 13, 14, 15, 16, 17, 18, 19, 20, 21, 22, 23, 24, 25, 26, 27, 28, 29, 30, 31, 32, 33, 34, 35, 36, 37, 38, 39, 40, MP1, MP2

## FH19C-6S-0.5SH(10)
designator J?
CONN FFC BOTTOM 6POS 0.50MM R/A; Manufacturer: Hirose; Manufacturer Part Number: FH19C-6S-0.5SH(10); Item Type: FFC Connector; Supplier 1: Digi-Key; RoHS: Yes; Category: FFC / FPC; Stock 1: 4697; Pricing 1: 1=1.10000, 10=0.96900, 25=0.91200, 50=0.87400, 100=0.83600, 250=0.76000, 500=0.68400, 1000=0.60800, 2500=0.55100 (USD); ComponentLink1URL: https://datasheet.ciiva.com/18563/ed-fh19cfh19sc-20140305-18563530.pdf?src-supplier=Digi-Key; ComponentLink1Description: https://datasheet.ciiva.com/18563/ed-fh19cfh19sc-20140305-18563530.pdf?src-supplier=Digi-Key; Supplier Part Number 1: H125824CT-ND; LCSC Part number: C424651
footprint FH19C-6S-0.5SH(10)_
pins: 1, 2, 3, 4, 5, 6, MP1, MP2

## FPC-05F-6PH20
designator J?
Clamshell -25℃~+85℃ 6P Bottom Contact Surface Mount，Right Angle 0.5mm SMD,P=0.5mm,Surface Mount，Right Angle FFC/FPC Connectors ROHS; Manufacturer: XUNPU; Manufacturer Part Number: FPC-05F-6PH20; Item Type: FPC; LCSC Part Number: C2856796; Package: SMD,P=0.5mm; ComponentLink1Description: LCSC Link; ComponentLink1URL: https://www.lcsc.com/product-detail/FFC-FPC-Connectors_XUNPU-FPC-05F-6PH20_C2856796.html
footprint FPC-05F-6PH20
pins: 1, 2, 3, 4, 5, 6, MP1, MP2

## FRC0402F2000TS
designator R?, comment 200R
62.5mW Thick Film Resistors 50V ±100ppm/℃ ±1% 200Ω 0402 Chip Resistor - Surface Mount ROHS; Manufacturer: FOJAN; Manufacturer Part Number: FRC0402F2000TS; LCSC Part Number: C2909333; Item Type: Resistor; Package: 0402; ComponentLink1Description: LCSC Link; ComponentLink1URL: https://www.lcsc.com/product-detail/Chip-Resistor-Surface-Mount_FOJAN-FRC0402F2000TS_C2909333.html
footprint Res-0402
pins: 1, 2

## FXL0530-3R3-M
designator L?, comment 3.3uH
5.5A 3.3uH Molding Choke ±20% 6A SMD,5.2x5.4mm Power Inductors ROHS; Manufacturer: cjiang (Changjiang Microelectronics Tech); Manufacturer Part Number: FXL0530-3R3-M; LCSC Part Number: C475518; Item Type: inductor; Package: SMD,5.2x5.4mm; ComponentLink1Description: LCSC Link; ComponentLink1URL: https://www.lcsc.com/product-detail/Power-Inductors_cjiang-Changjiang-Microelectronics-Tech-FXL0530-3R3-M_C475518.html
footprint FXL0530-3R3-M
pins: 1, 2

## GRM158R61A226ME15D
designator C?, comment 22uF
CAP CER 22UF 10V X5R 0402; Manufacturer: Murata; Manufacturer Part Number: GRM158R61A226ME15D; Material: 4241ConductorMaterial; Dielectric: 1537DielectricType; Tolerance: 20%; Item Type: Capacitor; Supplier: Mouser; Supplier Part Number: 81-GRM158R61A226ME5D; RoHS: Yes; Category: Ceramic Capacitors; Stock: 328944; Pricing: 1=0.46, 10=0.225, 50=0.225, 100=0.146, 1000=0.124, 10000=0.106 (USD); Case/Package: 343Case; Min Operating Temperature: -55°C; Max Operating Temperature: 85°C; Value: 22uF; Voltage Rating: 10V; Voltage Rating (DC): 10V; Length: 1mm; Width: 500um; Height: 800um; Thickness: 800um; LCSC Part Number: C3845593
footprint Cap-0402
pins: 1, 2

## GRM188R6YA106MA73D
designator C?, comment 10uF
10uF 35V X5R 20% Pad SMD 0603; Manufacturer: Murata; Manufacturer Part Number: GRM188R6YA106MA73D; Supplier 1: Arrow Electronics; RoHS: Yes; Category: Ceramic Capacitors; Stock 1: 37601; Pricing 1: 1=0.36650, 10=0.23380, 25=0.23160, 100=0.15050, 250=0.14890, 500=0.10700, 1000=0.09270, 3000=0.08640, 6000=0.07720, 15000=0.07140, 30000=0.05840 (USD); Mount: Surface Mount; Case/Package: 0603; Case Code (Metric): 1608; Case Code (Imperial): 0603; Min Operating Temperature: -55°C; Max Operating Temperature: 85°C; Packaging: Tape and Reel; Capacitance: 10uF; Voltage Rating: 35V; Tolerance: 20%; Voltage Rating (DC): 35V; Dielectric: X5R; Length: 0.063inch; Width: 0.031inch; Thickness: 0.039inch; RoHS Compliant: Yes; ComponentLink1URL: http://search.murata.co.jp/Ceramy/image/img/A01X/G101/ENG/GRM188R6YA106MA73-01.pdf?src-supplier=Future+Electronics; ComponentLink1Description: http://search.murata.co.jp/Ceramy/image/img/A01X/G101/ENG/GRM188R6YA106MA73-01.pdf?src-supplier=Future+Electronics; ComponentLink2URL: http://search.murata.co.jp/Ceramy/image/img/A01X/G101/ENG/GRM188R6YA106MA73-01.pdf?src-supplier=Digi-Key; ComponentLink2Description: http://search.murata.co.jp/Ceramy/image/img/A01X/G101/ENG/GRM188R6YA106MA73-01.pdf?src-supplier=Digi-Key; ComponentLink3URL: https://www.murata.com/~/media/webrenewal/support/library/catalog/products/capacitor/mlcc/c02e.ashx?la=en-us&src-supplier=Digi-Key; ComponentLink3Description: https://www.murata.com/~/media/webrenewal/support/library/catalog/products/capacitor/mlcc/c02e.ashx?la=en-us&src-supplier=Digi-Key; ComponentLink4URL: http://search.murata.co.jp/Ceramy/image/img/A01X/G101/ENG/GRM188R6YA106MA73-01.pdf?src-supplier=Mouser; ComponentLink4Description: http://search.murata.co.jp/Ceramy/image/img/A01X/G101/ENG/GRM188R6YA106MA73-01.pdf?src-supplier=Mouser; ComponentLink5URL: http://search.murata.co.jp/Ceramy/image/img/A01X/G101/ENG/GRM188R6YA106MA73-01.pdf?src-supplier=TTI; ComponentLink5Description: http://search.murata.co.jp/Ceramy/image/img/A01X/G101/ENG/GRM188R6YA106MA73-01.pdf?src-supplier=TTI; Supplier Part Number 1: GRM188R6YA106MA73D; LCSC Part Number: C194427
footprint Cap-0603
pins: 1, 2

## GT-TC074E-H080-L1
designator SW?
No NO 50mA 100MΩ 100000 Times 12V 130gf@±30gf Brick nogging SPST SMD Tactile Switches ROHS; Manufacturer: G-Switch; Manufacturer Part Number: GT-TC074E-H080-L1; Package: SMD; LCSC Part Number: C963229; Item Type: Tactile Switch; ComponentLink1Description: LCSC; ComponentLink1URL: https://www.lcsc.com/product-detail/Tactile-Switches_G-Switch-GT-TC074E-H080-L1_C963229.html
footprint GT-TC074E-H080-L1
pins: 1, 2, 3, 4

## GT-TF003-H0185-02
designator J?
-40℃~+90℃ 1.85mm Gold plating Deck MicroSD card (TF card) High Conductivity Copper Self bomb SMD SD Card Connectors ROHS; Manufacturer: G-Switch; Manufacturer Part Number: GT-TF003-H0185-02; Package: SMD; LCSC Part Number: C5155564; Item Type: MicroSD card; ComponentLink1Description: LCSC; ComponentLink1URL: https://www.lcsc.com/product-detail/SD-Card-Connectors_G-Switch-GT-TF003-H0185-02_C5155564.html
footprint GT-TF003-H0185-02
pins: 1 DAT2, 2 CD/DAT3, 3 CMD, 4 VDD, 5 CLK, 6 VSS, 7 DAT0, 8 DAT1, cd CD, S1 SHIELD, S2 SHIELD, S3 SHIELD, S4 SHIELD

## IPEX-0001
designator J?, comment 20579-001E
The M.2 industry standard,support up to 12 GHz; Manufacturer: I-PEX; Item Type: Antenna; Value: *; Package: None; Price: None; Manufacturer Part Number: 20579-001E; Availability: Unavailable; SnapEDA_Link: https://www.snapeda.com/parts/20579-001E/I-PEX/view-part/4300957/?ref=snap; LCSC Part Number: C2987682; ComponentLink1Description: LCSC Link; ComponentLink1URL: https://www.lcsc.com/product-detail/RF-Connectors-Coaxial-Connectors_ZIISOR-IPEX-1_C2987682.html
footprint IPEX-1
pins: 1 GND, 2 GND, 3 GND, 4 SIGNAL

## LIS2DH12TR
designator U?
Accelerometer X, Y, Z Axis Â±2g, 4g, 8g, 16g 0.5Hz ~ 672Hz 12-LGA (2x2); MF: STMicroelectronics; MP: LIS2DH12TR; Package: LGA-12 STMicroelectronics; Availability: In Stock; Value: *; Check_prices: https://www.snapeda.com/parts/LIS2DH12TR/STMicroelectronics/view-part/?ref=eda; Purchase-URL: https://pricing.snapeda.com/search/part/LIS2DH12TR/?ref=eda; Price: None; SnapEDA_Link: https://www.snapeda.com/parts/LIS2DH12TR/STMicroelectronics/view-part/?ref=snap
footprint PQFN50P200X200100-12N
pins: 1 SCL/SPC, 2 CS, 3 SDO/SAO, 4 SDA/SDI/SDO, 5 RES (power), 6 GND (power), 7 GND (power), 8 GND (power), 9 VDD (power), 10 VDD_IO (power), 11 INT2, 12 INT1

## LQG15HS47NJ02D
designator L?, comment 47nH
Inductor RF Chip Unshielded Multi-Layer 47nH 5% 100MHz 8Q-Factor Ceramic 200mA 720mOhm DCR 0402 T/R; Manufacturer: Murata Electronics; Manufacturer Part Number: LQG15HS47NJ02D; Package: 0402; LCSC Part Number: C97998; Item Type: Inductor; ComponentLink1Description: LCSC; ComponentLink1URL: https://www.lcsc.com/product-detail/Inductors-SMD_Murata-Electronics-LQG15HS47NJ02D_C97998.html
footprint LQG15HS47NJ02D
pins: 1, 2

## LQP03TN47NH02D
designator L?
Inductor with Inductance: 47nH Tol. +/-3%, Package: 0201 (0603); MP: LQP03TN47NH02D; MF: Murata; Purchase-URL: https://pricing.snapeda.com/search/part/LQP03TN47NH02D/?ref=eda; Package: 0603 Murata; SnapEDA_Link: https://www.snapeda.com/parts/LQP03TN47NH02D/Murata%20Electronics%20North%20America/view-part/1506104/?ref=snap; Value: *; Digi-Key_Part_Number: 490-9594-1-ND
footprint INDC0603X33N
pins: 1, 2

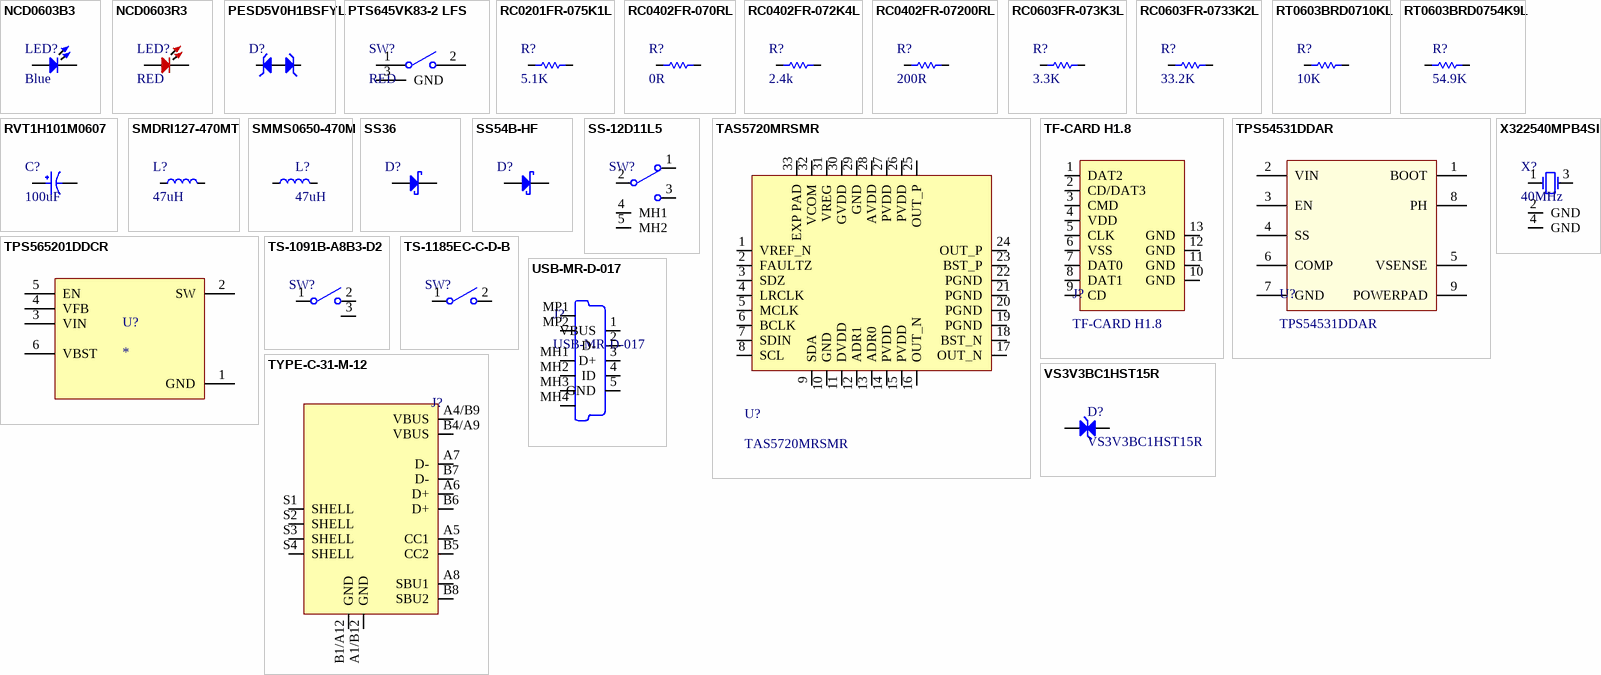
[diagram p1: symbols NCD0603B3 to X322540MPB4SI]

## NCD0603B3
designator LED?, comment Blue
blue 0603 Light Emitting Diodes (LED) ROHS; Manufacturer: Foshan NationStar Optoelectronics; Manufacturer Part Number: NCD0603B3; Package: 0603; LCSC Part Number: C158101; Item Type: LED; ComponentLink1Description: LCSC; ComponentLink1URL: https://www.lcsc.com/product-detail/Light-Emitting-Diodes-LED_Foshan-NationStar-Optoelectronics-NCD0603B3_C158101.html
footprint LED-0603
pins: 1, 2

## NCD0603R3
designator LED?, comment RED
RED LED 0603 Light Emitting Diodes; Manufacturer: Foshan NationStar Optoelectronics; Manufacturer Part Number: NCD0603R3; Package: 0603; Item Type: LED; LCSC Part Number: C3151730; ComponentLink1Description: LCSC; ComponentLink1URL: https://www.lcsc.com/product-detail/Light-Emitting-Diodes-LED_Foshan-NationStar-Optoelectronics-NCD0603R3_C3151730.html
footprint LED-0603
pins: 1, 2

## PESD5V0H1BSFYL
designator D?
TVS DIODE 5VWM 6.3VC DSN0603-2; Manufacturer: Nexperia; Manufacturer Part Number: PESD5V0H1BSFYL; Supplier 1: Avnet; RoHS: Yes; Category: ESD and Circuit Protection ICs; Stock 1: 9000; Pricing 1: 18000=0.06453, 36000=0.06278, 54000=0.06104, 90000=0.05930, 180000=0.05755, 900000=0.05581, 1800000=0.05406 (USD); RoHS Compliant: Yes; ComponentLink1URL: http://www.farnell.com/datasheets/1961312.pdf?src-supplier=Farnell; ComponentLink1Description: http://www.farnell.com/datasheets/1961312.pdf?src-supplier=Farnell; ComponentLink2URL: https://assets.nexperia.com/documents/data-sheet/PESD5V0H1BSF.pdf?src-supplier=Digi-Key; ComponentLink2Description: https://assets.nexperia.com/documents/data-sheet/PESD5V0H1BSF.pdf?src-supplier=Digi-Key; ComponentLink3URL: http://www.farnell.com/datasheets/1961312.pdf?src-supplier=Newark; ComponentLink3Description: http://www.farnell.com/datasheets/1961312.pdf?src-supplier=Newark; Supplier Part Number 1: PESD5V0H1BSFYL; LCSC Part Number: C477989; Item Type: Diode
footprint DSN0603-2
pins: 1, 2

## PTS645VK83-2 LFS
designator SW?, comment RED
SWITCH TACTILE SPST-NO 0.05A 12V; Manufacturer: ITT C&K; Manufacturer Part Number: PTS645VK83-2LFS; Mechanical Life: 100000Cycles; Actuator Material: Nylon,Polyamide,PA66; Operating Force: 260gf; Current Rating: 50mA; Illumination Type: Non-Illuminated; Throw Configuration: SPST; Switch Function: Off-Mom; Actuator Type: Standard; Supplier 1: Mouser; RoHS: Yes; Category: Tactile Switches; Stock 1: 15223; Pricing 1: 1=0.29000, 10=0.27900, 50=0.27400, 100=0.25800, 1000=0.17200, 10000=0.16500 (USD); Mount: Through Hole; Color: Black; Contact Plating: Silver; Min Operating Temperature: -20°C; Max Operating Temperature: 60°C; Package Quantity: 1000; Packaging: Bulk; Voltage Rating (DC): 12V; Termination: PC Pin; Max Current Rating: 50mA; Orientation: Right Angle; Series: PTS645; Length: 8.5mm; Depth: 12.3mm; Lead Free: Lead Free; RoHS Compliant: Yes; ComponentLink1URL: http://components.arrow.com/part/dataview/58497163S587771N9444?src-supplier=Arrow+Electronics; ComponentLink1Description: http://components.arrow.com/part/dataview/58497163S587771N9444?src-supplier=Arrow+Electronics; Supplier Part Number 1: 611-PTS645VK832; LCSC Part Number: C2798927
footprint PTS645VK83-2 LFS_
pins: 1, 2, 3 GND

## RC0201FR-075K1L
designator R?, comment 5.1K
RES 5.1K OHM 1% 1/20W 0201; Manufacturer: Yageo; Manufacturer Part Number: RC0201FR-075K1L; Power Rating: 50mW; Value: 5.1kR; Voltage Rating: 25V; Temperature Coefficient: 200ppm/°C; Item Type: Resistor; Supplier: Future Electronics; Supplier Part Number: 9072847; RoHS: Yes; Category: Chip SMD Resistors; Stock: 280000; Pricing: 10000=0.0014, 40000=0.0013, 200000=0.0013, 400000=0.0012, 1250000=0.0011 (USD); Case/Package: 0201; Case Code (Imperial): 0201; Case Code (Metric): 0603; Min Operating Temperature: -55°C; Max Operating Temperature: 125°C; Packaging: Tape and Reel; Tolerance: 1%; Termination: SMD/SMT; Number of Terminations: 2; Max Power Dissipation: 50mW; Features: Moisture Resistant; Series: RC; Length: 0.6mm; Width: 0.3mm; Height: 0.23mm; Lead Free: Lead Free; RoHS Compliant: Yes; ComponentLink1URL: http://www.mouser.com/ds/2/447/RC0201-559633.pdf?src-supplier=Mouser; ComponentLink1Description: http://www.mouser.com/ds/2/447/RC0201-559633.pdf?src-supplier=Mouser; ComponentLink2URL: https://datasheet.octopart.com/RC0201FR-075K1L-Yageo-datasheet-164759695.pdf?src-supplier=Future+Electronics; ComponentLink2Description: https://datasheet.octopart.com/RC0201FR-075K1L-Yageo-datasheet-164759695.pdf?src-supplier=Future+Electronics; ComponentLink3URL: http://www.yageo.com/documents/recent/PYu-RC_Group_51_RoHS_L_10.pdf?src-supplier=Digi-Key; ComponentLink3Description: http://www.yageo.com/documents/recent/PYu-RC_Group_51_RoHS_L_10.pdf?src-supplier=Digi-Key; LCSC Part Number: C274341
footprint Res-0201
pins: 1, 2

## RC0402FR-070RL
designator R?, comment 0R
RES 0 OHM JUMPER 1/16W 0402; Manufacturer: Yageo; Manufacturer Part Number: RC0402FR-070RL; Tolerance: 1%; Power Rating: 62.5mW; Voltage Rating: 50V; Temperature Coefficient: 200ppm/°C; Max Power Dissipation: 63mW; Supplier 1: Mouser; RoHS: Yes; Category: Chip SMD Resistors; Stock 1: 8556842; Pricing 1: 1=0.10000, 10=0.01400, 50=0.01400, 100=0.00600, 1000=0.00300, 5000=0.00200, 10000=0.00100 (USD); Mount: Surface Mount; Case/Package: 0402; Contact Plating: Tin,Matte; Case Code (Imperial): 0402; Case Code (Metric): 1005; Size Code: 0402; Min Operating Temperature: -55°C; Max Operating Temperature: 155°C; Resistance: 0R; Resistor Type: Thick Film; Packaging: Tape and Reel; Termination: SMD/SMT; Features: Moisture Resistant; Series: RC; Number of Terminations: 2; Length: 1mm; Width: 0.5mm; Height: 0.35mm; Radiation Hardening: No; Lead Free: Lead Free; RoHS Compliant: Yes; ComponentLink1URL: https://datasheet.ciiva.com/8896/pyu-rc0402-51-rohs-l-6-8896149.pdf?src-supplier=Avnet; ComponentLink1Description: https://datasheet.ciiva.com/8896/pyu-rc0402-51-rohs-l-6-8896149.pdf?src-supplier=Avnet; ComponentLink2URL: https://datasheet.ciiva.com/16790/pyu-rc0402-51-rohs-l-6-r-16790444.pdf?src-supplier=Future+Electronics; ComponentLink2Description: https://datasheet.ciiva.com/16790/pyu-rc0402-51-rohs-l-6-r-16790444.pdf?src-supplier=Future+Electronics; Supplier Part Number 1: 603-RC0402FR-070RL; LCSC Part Number: C106231
footprint Res-0402
pins: 1, 2

## RC0402FR-072K4L
designator R?, comment 2.4k
RES 2.4K OHM 1% 1/16W 0402; Manufacturer: Yageo; Manufacturer Part Number: RC0402FR-072K4L; Value: 2.4kR; Power Rating: 63mW; Voltage Rating: 50V; Temperature Coefficient: 100ppm/°C; Item Type: Resistor; Supplier 1: Future Electronics; RoHS: Yes; Category: Chip SMD Resistors; Stock 1: 20000; Pricing 1: 10000=0.001, 50000=0.001, 200000=0.0009, 300000=0.0009, 750000=0.0009, 1000000=0.0009, 2000000=0.0009, 3000000=0.0008, 7500000=0.0008 (USD); Case/Package: 0402; Case Code (Metric): 1005; Case Code (Imperial): 0402; Min Operating Temperature: -55°C; Max Operating Temperature: 155°C; Packaging: Tape and Reel; Tolerance: 1%; Package Quantity: 1; Resistor Type: Thick Film; Number of Terminations: 2; Termination: SMD/SMT; Max Power Dissipation: 63mW; Voltage Rating (DC): 50V; Features: Moisture Resistant; Series: RC; Construction: Rectangular; Resistance Tolerance: 1%; Length: 0.039inch; Width: 0.02inch; Height: 0.016inch; Depth: 0.5mm; Military Standard: Not; Lead Free: Lead Free; RoHS Compliant: Yes; Reach SVHC Compliant: Unknown; ComponentLink1URL: https://datasheet.ciiva.com/7849/1018594-7849930.pdf?src-supplier=Element14; ComponentLink1Description: https://datasheet.ciiva.com/7849/1018594-7849930.pdf?src-supplier=Element14; ComponentLink2URL: https://datasheet.ciiva.com/7849/1018594-7849931.pdf?src-supplier=Element14; ComponentLink2Description: https://datasheet.ciiva.com/7849/1018594-7849931.pdf?src-supplier=Element14; ComponentLink3URL: https://datasheet.ciiva.com/2453/pyu-r-int-thick-7-2453428.pdf?src-supplier=Digi-Key; ComponentLink3Description: https://datasheet.ciiva.com/2453/pyu-r-int-thick-7-2453428.pdf?src-supplier=Digi-Key; ComponentLink4URL: https://datasheet.ciiva.com/2453/pyu-r-int-thick-7-2453429.pdf?src-supplier=Digi-Key; ComponentLink4Description: https://datasheet.ciiva.com/2453/pyu-r-int-thick-7-2453429.pdf?src-supplier=Digi-Key; ComponentLink5URL: https://datasheet.ciiva.com/2453/pyu-r-int-thick-7-2453427.pdf?src-supplier=Digi-Key; ComponentLink5Description: https://datasheet.ciiva.com/2453/pyu-r-int-thick-7-2453427.pdf?src-supplier=Digi-Key; ComponentLink6URL: https://datasheet.ciiva.com/12667/pyu-rc0402-51-rohs-l-6-r-12667437.pdf?src-supplier=Mouser; ComponentLink6Description: https://datasheet.ciiva.com/12667/pyu-rc0402-51-rohs-l-6-r-12667437.pdf?src-supplier=Mouser; ComponentLink7URL: https://datasheet.ciiva.com/17423/pyu-rc0402-51-rohs-l-6-r-17423915.pdf?src-supplier=Future+Electronics; ComponentLink7Description: https://datasheet.ciiva.com/17423/pyu-rc0402-51-rohs-l-6-r-17423915.pdf?src-supplier=Future+Electronics; Supplier Part Number 1: 3635539; LCSC Part Number: C112296
footprint Res-0402
pins: 1, 2